# EAGLE library part CAY16-2201F4LF (library CAY16-2201F4LF)
Bourns CAY16 Series 2.2k +/-1% Isolated SMT Resistor Array, 4 Resistors, 0.25W total 1206 Package Convex Source: Datasheet <https://datasheet.datasheetarchive.com/originals/distributors/SFDatasheet-7/sf-000140092.pdf>
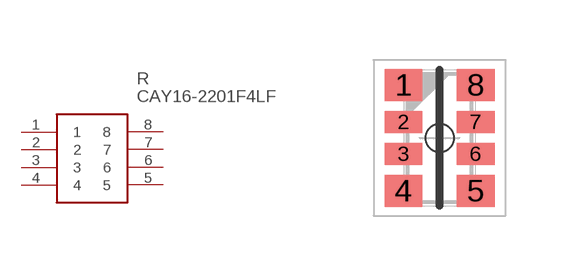
[diagram p0: symbol with the pads of RESCAX80P160X320X60-8N; footprint RESCAX80P160X320X60-8N]

Designator prefix R

## CAY16-2201F4LF (Arrow_Part_Number: CAY16-2201F4LF; Arrow_Price-Stock: https://www.arrow.com/en/products/cay16-2201f4lf/bourns?region=nac; Description: Bourns CAY16 Series 2.2k +/-1% Isolated SMT Resistor Array, 4 Resistors, 0.25W total 1206 Package Convex; Height: 0.6mm; Manufacturer_Name: Bourns; Manufacturer_Part_Number: CAY16-2201F4LF; Mouser_Part_Number: 652-CAY16-2201F4LF; Mouser_Price-Stock: https://www.mouser.co.uk/ProductDetail/Bourns/CAY16-2201F4LF?qs=tEaODSGlU8NX5flyk%2FHGvg%3D%3D)  [RESCAX80P160X320X60-8N]
1  1
2  2
3  3
4  4
5  5
6  6
7  7
8  8

## Footprint RESCAX80P160X320X60-8N (pad centres in mm)
CAY16-4701F4LF
smd 0.95 x 0.8: 1 -0.9,1.325; 4 -0.9,-1.325; 5 0.9,-1.325; 8 0.9,1.325
smd 0.95 x 0.55: 2 -0.9,0.4; 3 -0.9,-0.4; 6 0.9,-0.4; 7 0.9,0.4